# Altium footprint library BAT54-7-F.PcbLib: 1 footprints
Each footprint in its own frame and in the unit in brackets; x right, y up, seen from the top. Pads: shape width x height; smd on the part's side, far side on the other; paste and mask are expansions set on the pad; w line width, h text height; cw(c..) or ccw(c..) is an arc to the next point about the centre after c.
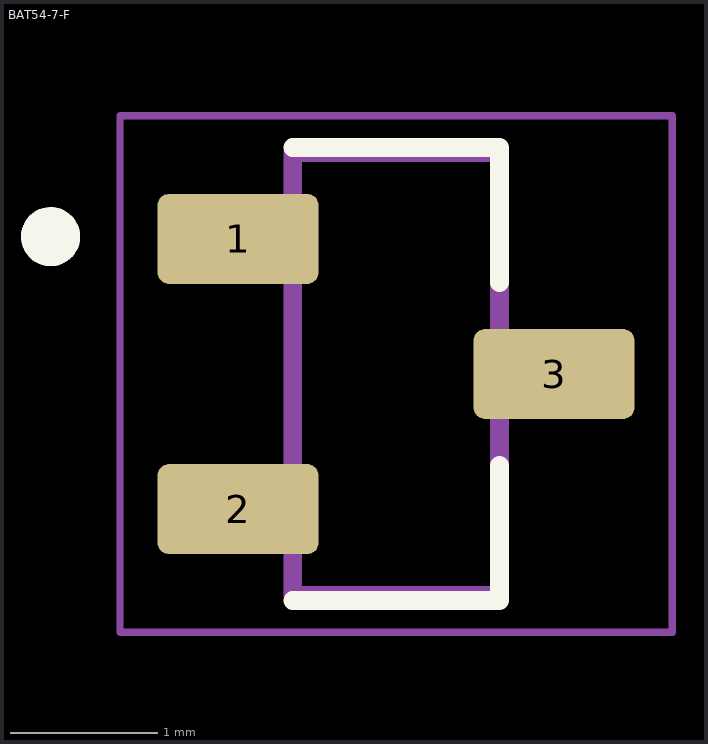
[diagram p0: the footprint, top view; thin cyan lines are the x and y axes]

## BAT54-7-F [mm]
pads (3):
  rrect25% 1.09x0.61 smd: 1(-153.343,174.051) 2(-153.343,172.221) 3(-151.203,173.136)
Top Overlay:
  circle w0.2: c-154.613,174.066 r0.1
  lines w0.127: -152.973,171.602 -151.573,171.602 -151.573,172.517 ; -152.973,174.67 -151.573,174.67 -151.573,173.755
Mechanical 13:
  circle w0.2: c-154.613,174.066 r0.1
  lines w0.127: -152.973,171.636 -151.573,171.636 -151.573,174.636 -152.973,174.636 -152.973,171.636
Mechanical 15:
  lines w0.05: -154.143,171.386 -154.143,174.886 -150.403,174.886 -150.403,171.386 -154.143,171.386